# EAGLE library part PWR_GAUGE_BQ41Z50RSN (library !GPLIB_ACTIVE)
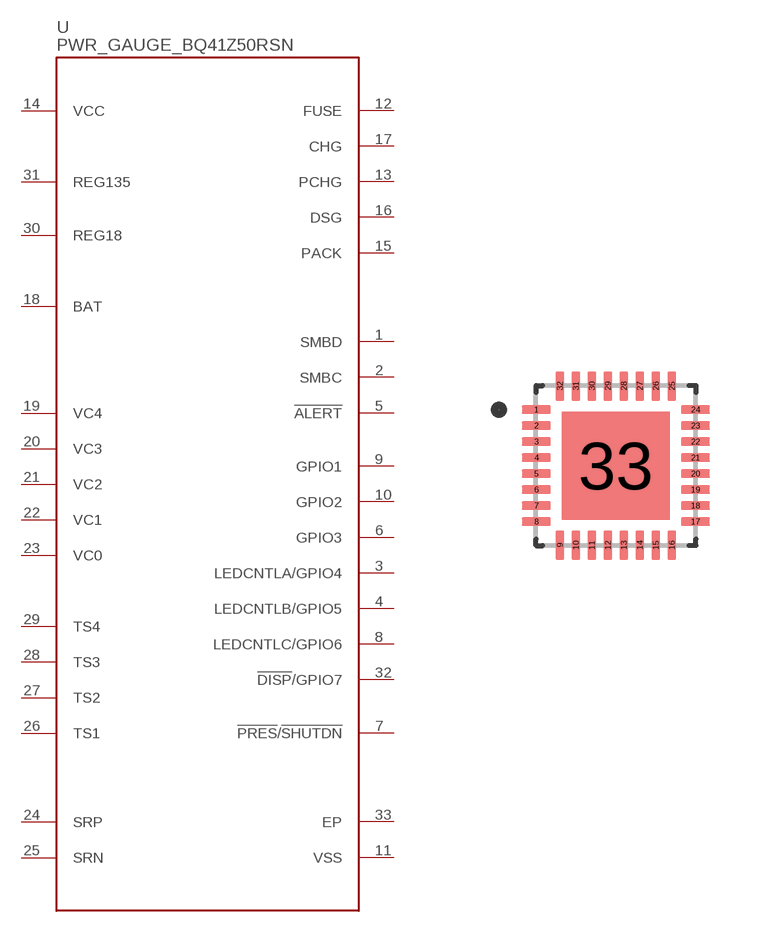
[diagram p63: symbol with the pads of QFN40P400X400X80-33N; footprint QFN40P400X400X80-33N]

Designator prefix U

## PWR_GAUGE_BQ41Z50RSN_BQ41Z50RSN  [QFN40P400X400X80-33N]
1  SMBD
2  SMBC
3  LEDCNTLA/GPIO4
4  LEDCNTLB/GPIO5
5  !ALERT  out
6  GPIO3
7  !PRES!/!SHUTDN  in
8  LEDCNTLC/GPIO6  pas
9  GPIO1
10  GPIO2
11  VSS  pwr
12  FUSE
13  PCHG  out
14  VCC  pwr
15  PACK  in
16  DSG  out
17  CHG  out
18  BAT  pwr
19  VC4  in
20  VC3  in
21  VC2  in
22  VC1  in
23  VC0  in
24  SRP  in
25  SRN  in
26  TS1  pas
27  TS2  pas
28  TS3  pas
29  TS4  pas
30  REG18  pwr
31  REG135  pwr
32  !DISP!/GPIO7  in
33  EP  pwr

## Footprint QFN40P400X400X80-33N (pad centres in mm)
smd 0.73 x 0.22: 1 -1.99,1.4; 2 -1.99,1; 3 -1.99,0.6; 4 -1.99,0.2; 5 -1.99,-0.2; 6 -1.99,-0.6; 7 -1.99,-1; 8 -1.99,-1.4; 17 1.99,-1.4; 18 1.99,-1; 19 1.99,-0.6; 20 1.99,-0.2; 21 1.99,0.2; 22 1.99,0.6; 23 1.99,1; 24 1.99,1.4
smd 0.22 x 0.73: 9 -1.4,-1.99; 10 -1,-1.99; 11 -0.6,-1.99; 12 -0.2,-1.99; 13 0.2,-1.99; 14 0.6,-1.99; 15 1,-1.99; 16 1.4,-1.99; 25 1.4,1.99; 26 1,1.99; 27 0.6,1.99; 28 0.2,1.99; 29 -0.2,1.99; 30 -0.6,1.99; 31 -1,1.99; 32 -1.4,1.99
smd 2.7 x 2.7: 33 0,0